# Altium footprint library axsem_displays_v1-1.PCBLIB: 2 footprints
Each footprint in its own frame and in the unit in brackets; x right, y up, seen from the top. Pads: shape width x height; smd on the part's side, far side on the other; paste and mask are expansions set on the pad; w line width, h text height; cw(c..) or ccw(c..) is an arc to the next point about the centre after c.
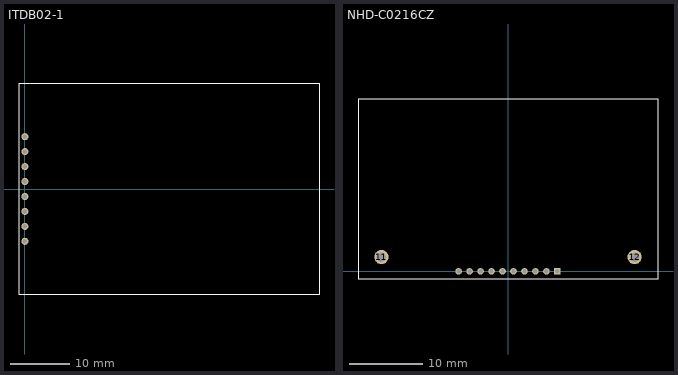
[diagram p0: the footprints below, top view; thin cyan lines are the x and y axes]

## ITDB02-1 [mil]
pads (8):
  round 47.25 hole 31.5: P1(0,-350) P2(0,-250) P3(0,-150) P4(0,-50) P5(0,50) P6(0,150) P7(0,250) P8(0,350)
Top Overlay:
  lines w5: -39.37,-708.66 1968.5,-708.66 1968.5,708.66 -39.37,708.66 -39.37,-708.66

## NHD-C0216CZ [mm]
pads (12):
  rect 0.9x0.9 hole 0.6: 1(6.75,0)
  round 0.9 hole 0.6: 2(5.25,0) 3(3.75,0) 4(2.25,0) 5(0.75,0) 6(-0.75,0) 7(-2.25,0) 8(-3.75,0) 9(-5.25,0) 10(-6.75,0)
  round 1.95 hole 1.3: 11(-17.3,1.95) 12(17.3,1.95)
Top Overlay:
  lines w0.127: -20.5,-1 -20.5,23.5 20.5,23.5 20.5,-1 -20.5,-1
Mechanical 16:
  text "2 x 16 segment LCD" at -10.5,20 h1.97
  text "NHD-C0216CZ" at -10.5,13.5 h1.97